# EAGLE library part W65C02S (library 6502_lib)
W65C02 by WDC
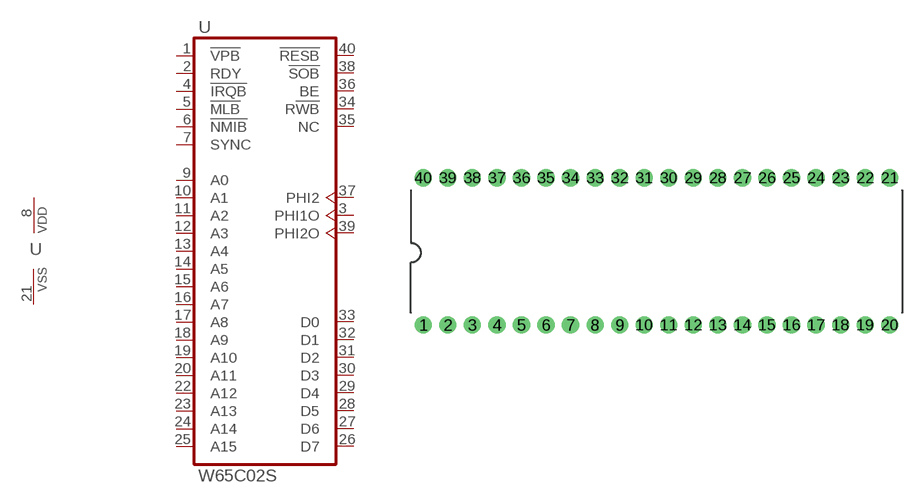
[diagram p1: symbol with the pads of DIL40; footprint DIL40]

Designator prefix U; gates 1=W65C02 P=PWRN

## W65C02S6TP  [DIL40]
1  1:!VPB  out
2  1:RDY  in
3  1:PHI1O  out
4  1:!IRQB  in
5  1:!MLB  out
6  1:!NMIB  in
7  1:SYNC  out
8  P:VDD  pwr
9  1:A0  out
10  1:A1  out
11  1:A2  out
12  1:A3  out
13  1:A4  out
14  1:A5  out
15  1:A6  out
16  1:A7  out
17  1:A8  out
18  1:A9  out
19  1:A10  out
20  1:A11  out
21  P:VSS  pwr
22  1:A12  out
23  1:A13  out
24  1:A14  out
25  1:A15  out
26  1:D7
27  1:D6
28  1:D5
29  1:D4
30  1:D3
31  1:D2
32  1:D1
33  1:D0
34  1:R!WB  out
35  1:NC  nc
36  1:BE  in
37  1:PHI2  in
38  1:!SOB  in
39  1:PHI2O  out
40  1:!RESB  in

## Footprint DIL40 (pad centres in mm)
drill 1.016 pad 1.778: 1 -24.13,-7.62; 2 -21.59,-7.62; 3 -19.05,-7.62; 4 -16.51,-7.62; 5 -13.97,-7.62; 6 -11.43,-7.62; 7 -8.89,-7.62; 8 -6.35,-7.62; 9 -3.81,-7.62; 10 -1.27,-7.62; 11 1.27,-7.62; 12 3.81,-7.62; 13 6.35,-7.62; 14 8.89,-7.62; 15 11.43,-7.62; 16 13.97,-7.62; 17 16.51,-7.62; 18 19.05,-7.62; 19 21.59,-7.62; 20 24.13,-7.62; 21 24.13,7.62; 22 21.59,7.62; 23 19.05,7.62; 24 16.51,7.62; 25 13.97,7.62; 26 11.43,7.62; 27 8.89,7.62; 28 6.35,7.62; 29 3.81,7.62; 30 1.27,7.62; 31 -1.27,7.62; 32 -3.81,7.62; 33 -6.35,7.62; 34 -8.89,7.62; 35 -11.43,7.62; 36 -13.97,7.62; 37 -16.51,7.62; 38 -19.05,7.62; 39 -21.59,7.62; 40 -24.13,7.62